# Altium footprint library custLib.PcbLib: 48 footprints (part 2 of 3)
Each footprint in its own frame and in the unit in brackets; x right, y up, seen from the top. Pads: shape width x height; smd on the part's side, far side on the other; paste and mask are expansions set on the pad; w line width, h text height; cw(c..) or ccw(c..) is an arc to the next point about the centre after c.
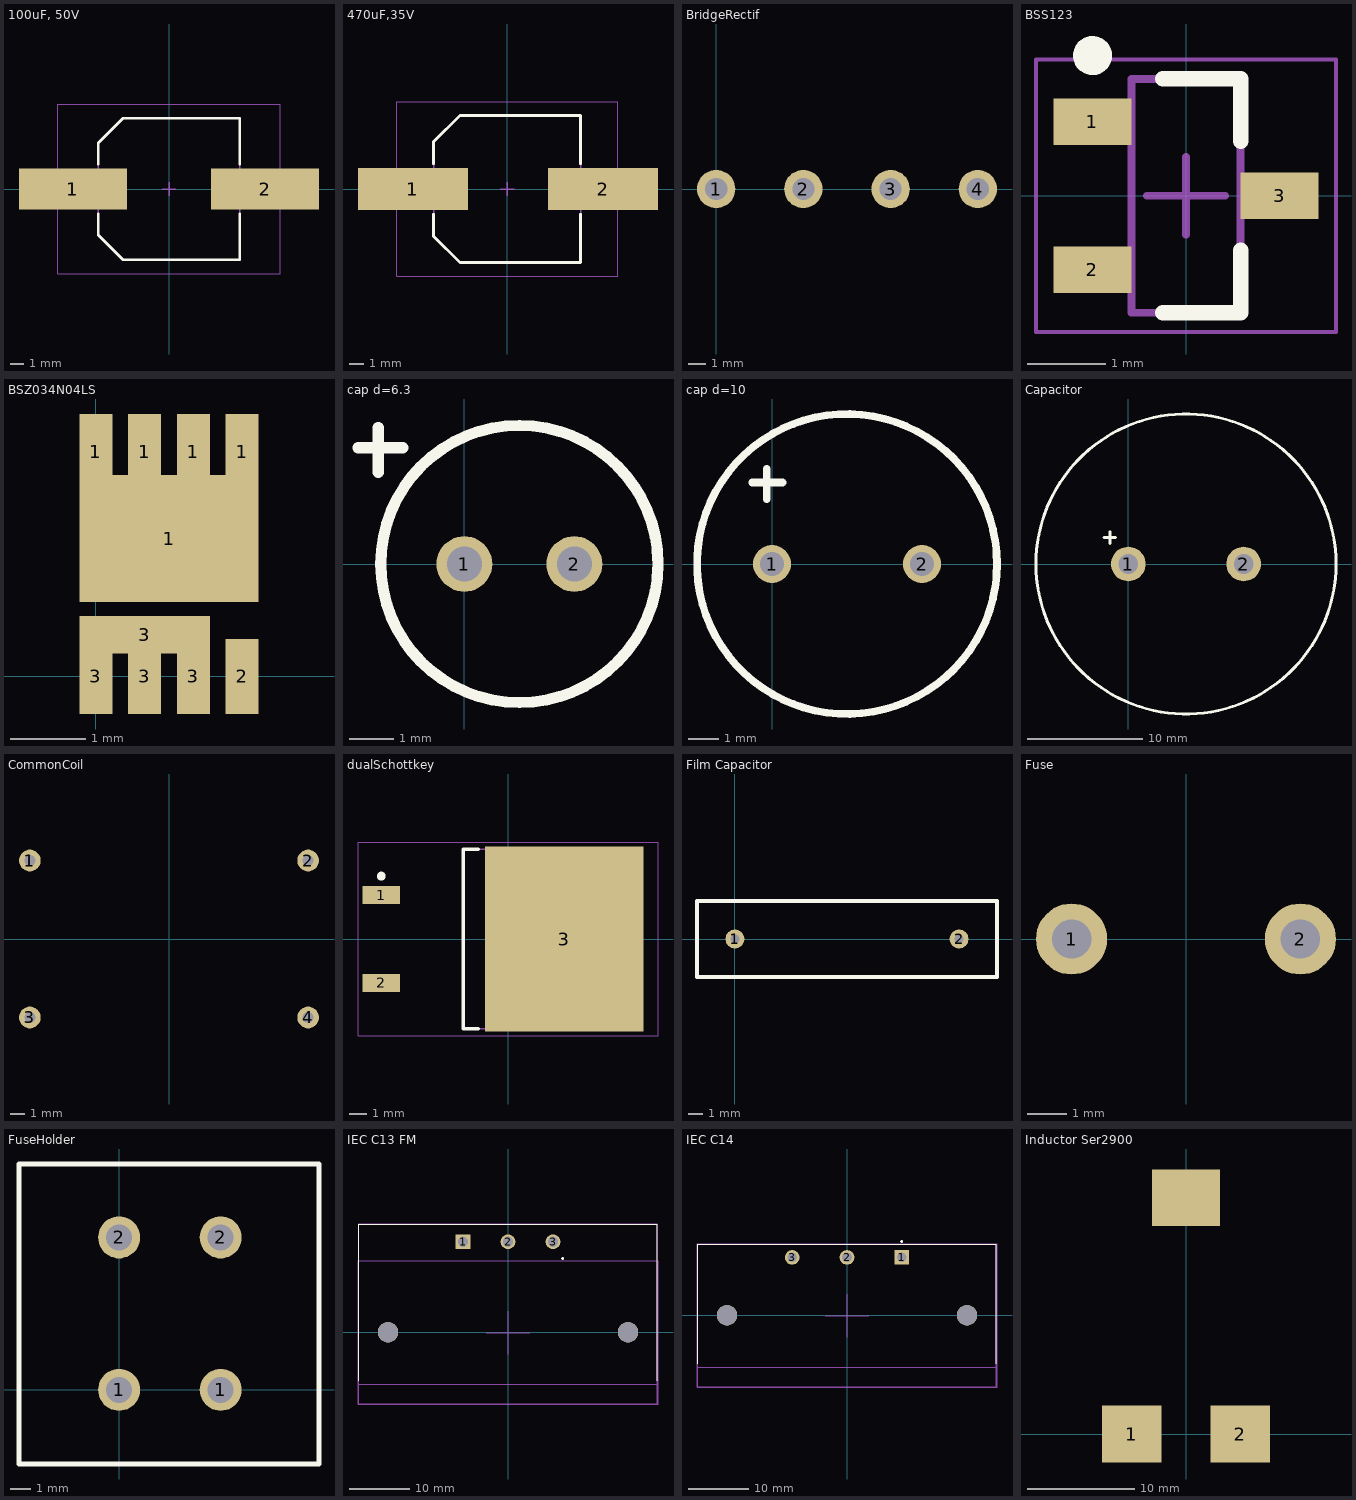
[diagram p1: the footprints below, top view; thin cyan lines are the x and y axes]

## 100uF, 50V [mm] "EEHZA1H101P"
height 10.2
pads (2):
  rect 7.85x3 smd: 1(-6.985,0) 2(6.985,0)
Top Overlay:
  lines w0.2: -5.15,-1.8 -5.15,-3.325 -3.325,-5.15 5.15,-5.15 5.15,-1.8 ; -5.15,1.8 -5.15,3.325 -3.325,5.15 5.15,5.15 5.15,1.8
Mechanical 13:
  lines w0.1: -5.15,-3.325 -3.325,-5.15 5.15,-5.15 5.15,5.15 -3.325,5.15 -5.15,3.325 -5.15,-3.325
Mechanical 15:
  lines w0.05: -8.1,-6.15 -8.1,6.15 8.1,6.15 8.1,-6.15 -8.1,-6.15
  lines w0.1: -0.5,0 0.5,0 ; 0,-0.5 0,0.5
3D body: height 3.4, standoff 0, extent -5.15,-5.15 5.15,5.15
3D body: height 10.2, standoff 0, extent -5.25,-5.25 5.25,5.244

## 470uF,35V [mm] "Aluminum Electrolytic Capacitor, Body 10,30x10,30x10,20mm, IPC Low Density"
height 10.2
pads (2):
  rect 7.85x3 smd: 1(-6.731,0) 2(6.858,0)
Top Overlay:
  lines w0.2: -5.25,-1.8 -5.25,-3.375 -3.375,-5.25 5.25,-5.25 5.25,-1.8 ; -5.25,1.8 -5.25,3.375 -3.375,5.25 5.25,5.25 5.25,1.8
Mechanical 13:
  lines w0.1: -5.25,-3.375 -5.25,3.375 -3.375,5.25 5.25,5.25 5.25,-5.25 -3.375,-5.25 -5.25,-3.375
Mechanical 15:
  lines w0.05: -7.9,-6.25 7.9,-6.25 7.9,6.25 -7.9,6.25 -7.9,-6.25
  lines w0.1: -0.5,0 0.5,0 ; 0,-0.5 0,0.5
3D body: height 10.2, standoff 0, extent -5.25,-5.25 5.25,5.244
3D body: height 3.4, standoff 0, extent -5.25,-5.25 5.25,5.25

## BridgeRectif [mm]
pads (4):
  round 2.2 hole 1.27: 1(0,0) 2(5,0) 3(10,0) 4(15,0)
3D body: height 0.25, standoff 0, extent 1.905,-3.429 1.905,-3.429
3D body: height 18.8, standoff 0, extent -1.905,-1.397 16.891,1.397

## BSS123 [mm] "SOT-23-3, 3-Leads, Body 2,90x2,45mm, Pitch 0,95mm, IPC Medium Density"
height 1.1
pads (3):
  rect 1x0.6 smd: 1(-1.2,0.95) 2(-1.2,-0.95) 3(1.2,0)
Top Overlay:
  circle w0.25: c-1.2,1.8 r0.125
  lines w0.2: -0.3,-1.5 0.7,-1.5 0.7,-0.7 ; -0.3,1.5 0.7,1.5 0.7,0.7
Mechanical 13:
  lines w0.1: -0.7,-1.5 0.7,-1.5 0.7,1.5 -0.7,1.5 -0.7,-1.5
Mechanical 15:
  lines w0.05: -1.925,-1.75 1.925,-1.75 1.925,1.75 -1.925,1.75 -1.925,-1.75
  lines w0.1: -0.5,0 0.5,0 ; 0,-0.5 0,0.5
3D body: height 1.1, standoff 0.05, extent -0.7,-1.5 0.7,1.5

## BSZ034N04LS [mm] "BSZ034N04LS"
pads (10):
  rect 0.44x1 smd: 1(0,3) 1(0.65,3) 1(1.3,3) 1(1.95,3) 2(1.95,0) 3(0,0) 3(0.65,0) 3(1.3,0)
  rect 2.389x1.69 smd: 1(0.976,1.84)
  rect 1.74x0.5 smd: 3(0.65,0.559)

## cap d=6.3 [mm] "6.3mm diam"
pads (2):
  round 1.27 hole 0.8: 1(0,0) 2(2.5,0)
Top Overlay:
  circle w0.254: c1.25,0 r3.15
  lines w0.254: -2.417,2.642 -1.401,2.642 ; -1.956,2.083 -1.956,3.099
3D body: height 11.2, standoff 0, extent -1.9,-3.121 4.4,3.172

## cap d=10 [mm] "6.3mm diam"
pads (2):
  round 1.27 hole 0.8: 1(0,0) 2(5,0)
Top Overlay:
  circle w0.254: c2.5,0 r5
  lines w0.254: -0.664,2.718 0.352,2.718 ; -0.178,2.159 -0.178,3.175
3D body: height 15, standoff 0, extent -2.5,-5 7.5,5

## Capacitor [mm]
pads (2):
  round 3 hole 1.7: 1(0,0) 2(10,0)
Top Overlay:
  circle w0.254: c5,0 r13
  lines w0.254: -2.112,2.286 -1.096,2.286 ; -1.6,1.778 -1.6,2.794
3D body: height 32, standoff 0, extent -8.047,-12.996 17.953,12.996

## CommonCoil [mil]
pads (4):
  round 60 hole 30: 1(-383.86,216.54) 2(383.86,216.54) 3(-383.86,-216.54) 4(383.86,-216.54)
3D body: height 1141.73, standoff 0, extent -629.92,-393.7 629.92,393.7

## dualSchottkey [mm] "D2-PAK, 3-Pads, Body 7,60x8,46mm (max), IPC Medium Density"
height 4.5
pads (3):
  rect 2.15x1.05 smd: 1(-7.2,2.5) 2(-7.2,-2.5)
  rect 9x10.5 smd: 3(3.2,0)
Top Overlay:
  circle w0.25: c-7.2,3.575 r0.125
  lines w0.2: -1.7,-5.1 -2.55,-5.1 -2.55,5.1 -1.7,5.1
Mechanical 13:
  lines w0.1: -2.55,-5.1 -2.55,5.1 6.45,5.1 6.45,-5.1 -2.55,-5.1
Mechanical 15:
  lines w0.05: -8.525,-5.5 -8.525,5.5 8.525,5.5 8.525,-5.5 -8.525,-5.5
  lines w0.1: -0.5,0 0.5,0 ; 0,-0.5 0,0.5
3D body: height 4.5, standoff 0, extent -2.55,-5.1 6.45,5.1

## Film Capacitor [mm]
pads (2):
  round 1.27 hole 0.6: 1(0,0) 2(15,0)
Top Overlay:
  lines w0.254: -2.54,-2.54 0,-2.54 15,-2.54 17.54,-2.54 17.54,2.54 15,2.54 0,2.54 -2.54,2.54 -2.54,-2.54
3D body: height 16, standoff 0, extent -2.54,-2.54 17.526,2.54

## Fuse [mm]
pads (2):
  round 1.8 hole 1: 1(-2.9,0) 2(2.9,0)
3D body: height 7.6, standoff 0, extent -4.25,-4.25 4.25,4.25
3D body: height 0.25, standoff 0, extent -3.556,1.524 -3.556,1.524

## FuseHolder [mm] "FuseHolder 5x20mm"
pads (4):
  round 2.1 hole 1.3: 1(0,0) 1(5.08,0) 2(0,7.62) 2(5.08,7.62)
Top Overlay:
  lines w0.254: -5.004,-3.708 -5.004,11.292 9.996,11.292 9.996,-3.708 -5.004,-3.708
3D body: height 32.6, standoff 0, extent -4.96,-3.686 10.04,11.306

## IEC C13 FM [mm] "Kaltgeraetestecker PCB mount Female"
pads (5):
  rect 2.45x2.45 hole 1.7 paste-1000 mask+0: 1(-7.5,15.1)
  round 2.45 hole 1.7 paste-1000 mask+0: 2(0,15.1) 3(7.5,15.1)
  round 3.4 hole 3.4 unplated paste-1000 mask+0: ""(-20,0.025) ""(20,0.025)
Top Overlay:
  circle w0.25: c9.11,12.325 r0.125
  lines w0.2: -24.9,-8.075 -24.9,18.034 24.9,18.034 24.9,-8.075
Mechanical 10:
  lines w0.2: -25,-11.975 25,-11.975 25,11.925 -25,11.925 -25,-11.975
  text ".Designator" at 0,-0.025 h1
Mechanical 12:
  lines w0.15: -25,-8.675 25,-8.675 ; -24.9,-11.875 24.9,-11.875 24.9,18.11 -24.9,18.11 -24.9,-11.875
Mechanical 15:
  lines w0.1: -3.585,-0.025 3.585,-0.025 ; 0,-3.61 0,3.56
  lines w0.2: -25,-11.975 25,-11.975 25,11.925 -25,11.925 -25,-11.975
3D body "Conn_Bulgin_PX0580-PC_eec.STEP": height 27.57, standoff -3.85, extent -24.88,-11.86 24.88,11.74

## IEC C14 [mm] "Kaltgeraetestecker PCB mount Male"
pads (5):
  rect 2.45x2.45 hole 1.6 paste-1000 mask+0: 1(9.14,9.675)
  round 2.45 hole 1.6 paste-1000 mask+0: 2(0,9.675) 3(-9.14,9.675)
  round 3.4 hole 3.4 unplated paste-1000 mask+0: ""(-20,0.025) ""(20,0.025)
Top Overlay:
  circle w0.25: c9.11,12.325 r0.125
  lines w0.2: -24.9,-8.075 -24.9,11.825 24.9,11.825 24.9,-8.075
Mechanical 10:
  lines w0.2: -25,-11.975 25,-11.975 25,11.925 -25,11.925 -25,-11.975
  text ".Designator" at 0,-0.025 h1
Mechanical 12:
  lines w0.15: -25,-8.675 25,-8.675 ; -24.9,-11.875 24.9,-11.875 24.9,11.825 -24.9,11.825 -24.9,-11.875
Mechanical 15:
  lines w0.1: -3.585,-0.025 3.585,-0.025 ; 0,-3.61 0,3.56
  lines w0.2: -25,-11.975 25,-11.975 25,11.925 -25,11.925 -25,-11.975
3D body "Conn_Bulgin_PX0580-PC_eec.STEP": height 27.57, standoff -3.85, extent -24.88,-11.86 24.88,11.74

## Inductor Ser2900 [mm] "SER2915H-103KL"
pads (3):
  rect 5.59x5.33 smd: 1(-5.075,0) 2(5.075,0)
  rect 6.35x5.28 smd: ""(0,22.077)
3D body: height 15.36, standoff 0, extent -14.077,4.959 13.823,24.759